# EAGLE library part 68800911622 (library Wire-to-Board)
WR-WTB 2.50mm "J"Type Vertical Male Shrouded Header, 9 Pins=>Code : WR-WTB_Stiftleiste_J_68800911622 <http://katalog.we-online.de/media/thumbs2/eican/thb_WR-WTB_Stiftleiste_J_68800116622.jpg> Details see: http://katalog.we-online.de/en/em/688_0xx_116_22 Created 2014-06-05, Karrer Zheng 2014 (C) Würth Elektronik
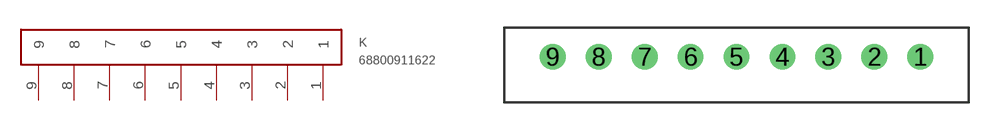
[diagram p16: symbol with the pads of 68800911622; footprint 68800911622]

Designator prefix K

## 68800911622  [68800911622]
1  1
2  2
3  3
4  4
5  5
6  6
7  7
8  8
9  9

## Footprint 68800911622 (pad centres in mm)
WR-WTB 2.50mm "J" Type Vertical Male Shrouded Header, 9 Pins
drill 0.9: 1 1.25,0; 2 -1.25,0; 3 -3.75,0; 4 -6.25,0; 5 -8.75,0; 6 -11.25,0; 7 -13.75,0; 8 -16.25,0; 9 -18.75,0